# EAGLE library part LM2665 (library Modulo)
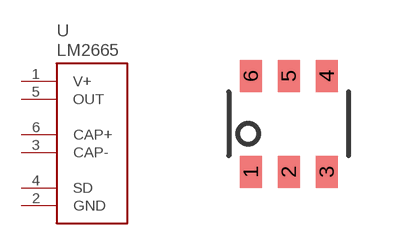
[diagram p7: symbol with the pads of SOT-26; footprint SOT-26]

Designator prefix U

## LM2665 (VALUE: LM2665M6/NOPB)  [SOT-26]
1  V+
2  GND
3  CAP-
4  SD
5  OUT
6  CAP+

## Footprint SOT-26 (pad centres in mm)
smd 0.55 x 0.8: 1 -0.95,-1.2; 2 0,-1.2; 3 0.95,-1.2; 4 0.95,1.2; 5 0,1.2; 6 -0.95,1.2